# EAGLE library part 8POLE (library Connector-Housing)
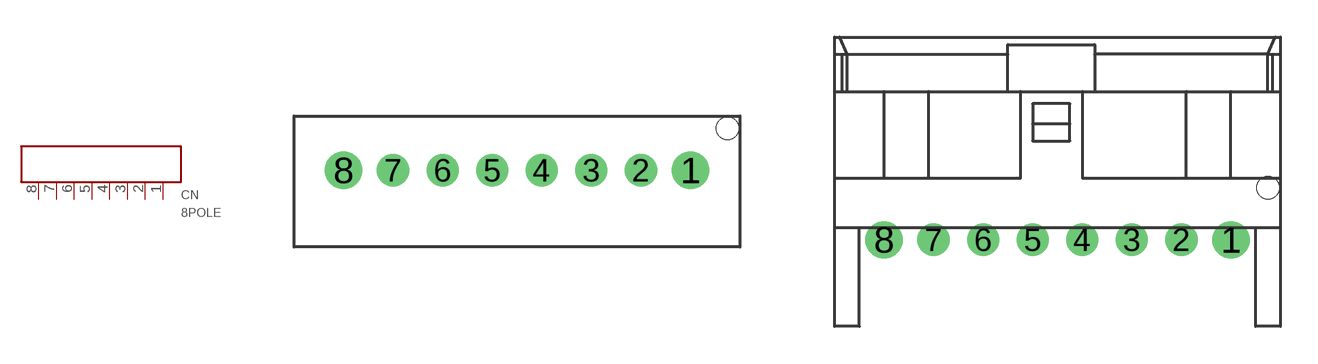
[diagram p1: symbol with the pads of B08B-PASK(2MM_PITCH); footprints B08B-PASK(2MM_PITCH), S08B-PASK-2(2MM_PITCH)]

Designator prefix CN

## 8POLE-PASK  [B08B-PASK(2MM_PITCH)]
1  P$8
2  P$7
3  P$6
4  P$5
5  P$4
6  P$3
7  P$2
8  P$1

## 8POLE-PASK_SIDE  [S08B-PASK-2(2MM_PITCH)]
Pads as for B08B-PASK(2MM_PITCH)

## Footprint B08B-PASK(2MM_PITCH) (pad centres in mm)
B08B-PASK _PA series 2.0mm pitch connector Producted by JST.
drill 1 round: 1 7,0; 8 -7,0
drill 0.8 round: 2 5,0; 3 3,0; 4 1,0; 5 -1,0; 6 -3,0; 7 -5,0
hole 0.9 at 8.5,1.7

## Footprint S08B-PASK-2(2MM_PITCH) (pad centres in mm)
S08B-PASK _PA series 2.0mm pitch connector Producted by JST.
drill 1 round: 1 7,0; 8 -7,0
drill 0.8 round: 2 5,0; 3 3,0; 4 1,0; 5 -1,0; 6 -3,0; 7 -5,0
hole 0.9 at 8.5,2.1